# EAGLE library part BQ25887RGER (library SamacSys_Parts)
I2C Controlled, 2-cell, 2-A boost-mode battery charger with cell balancing Source: Datasheet <http://www.ti.com/lit/gpn/BQ25887>
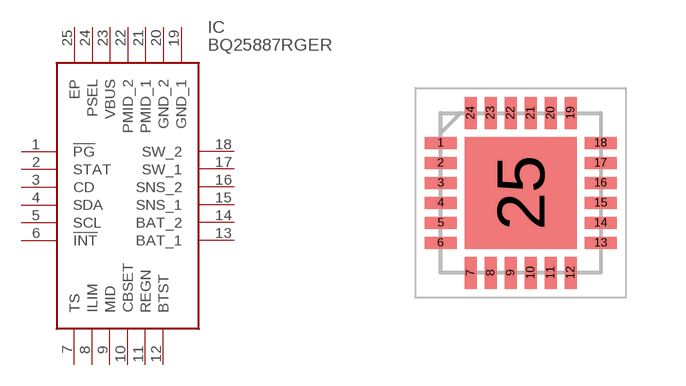
[diagram p0: symbol with the pads of QFN50P400X400X100-25N; footprint QFN50P400X400X100-25N]

Designator prefix IC

## BQ25887RGER (Description: I2C Controlled, 2-cell, 2-A boost-mode battery charger with cell balancing; Height: 1mm; Manufacturer_Name: Texas Instruments; Manufacturer_Part_Number: BQ25887RGER; Mouser_Part_Number: 595-BQ25887RGER; Mouser_Price-Stock: https://www.mouser.com/Search/Refine.aspx?Keyword=595-BQ25887RGER)  [QFN50P400X400X100-25N]
1  !PG
2  STAT
3  CD
4  SDA
5  SCL
6  !INT
7  TS
8  ILIM
9  MID
10  CBSET
11  REGN
12  BTST
13  BAT_1
14  BAT_2
15  SNS_1
16  SNS_2
17  SW_1
18  SW_2
19  GND_1
20  GND_2
21  PMID_1
22  PMID_2
23  VBUS
24  PSEL
25  EP

## Footprint QFN50P400X400X100-25N (pad centres in mm)
VQFN_24 pin
smd 0.8 x 0.3: 1 -2,1.25; 2 -2,0.75; 3 -2,0.25; 4 -2,-0.25; 5 -2,-0.75; 6 -2,-1.25; 13 2,-1.25; 14 2,-0.75; 15 2,-0.25; 16 2,0.25; 17 2,0.75; 18 2,1.25
smd 0.3 x 0.8: 7 -1.25,-2; 8 -0.75,-2; 9 -0.25,-2; 10 0.25,-2; 11 0.75,-2; 12 1.25,-2; 19 1.25,2; 20 0.75,2; 21 0.25,2; 22 -0.25,2; 23 -0.75,2; 24 -1.25,2
smd 2.8 x 2.8: 25 0,0